# EAGLE library part EFM8BB21F16A-C-QFN20 (library EFM8BB21F16A-C-QFN20)
IC MCU 8BIT 16KB FLASH 20QFN Source: Datasheet <https://componentsearchengine.com/Datasheets/2/EFM8BB21F16A-C-QFN20.pdf>
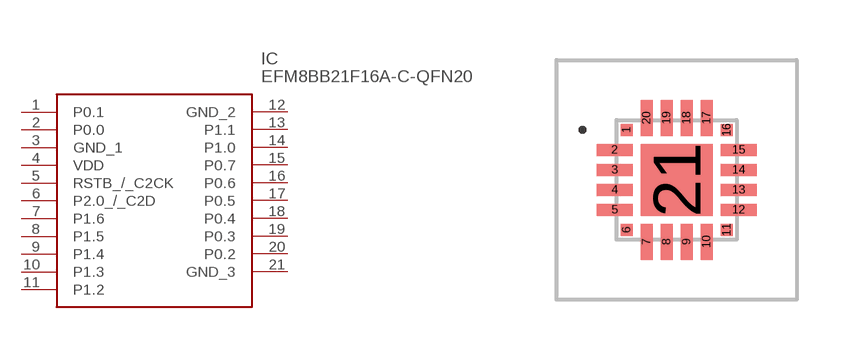
[diagram p0: symbol with the pads of EFM8BB21F16ACQFN20; footprint EFM8BB21F16ACQFN20]

Designator prefix IC

## EFM8BB21F16A-C-QFN20 (Description: IC MCU 8BIT 16KB FLASH 20QFN; Height: 0.8mm; Manufacturer_Name: Silicon Labs; Manufacturer_Part_Number: EFM8BB21F16A-C-QFN20; Mouser_Part_Number: 634-EFM8BB21F16FN20; Mouser_Price-Stock: https://www.mouser.co.uk/ProductDetail/Silicon-Labs/EFM8BB21F16A-C-QFN20?qs=8HqIXBaaO6yFJdjkDKkkeA%3D%3D)  [EFM8BB21F16ACQFN20]
1  P0.1
2  P0.0
3  GND_1
4  VDD
5  RSTB_/_C2CK
6  P2.0_/_C2D
7  P1.6
8  P1.5
9  P1.4
10  P1.3
11  P1.2
12  GND_2
13  P1.1
14  P1.0
15  P0.7
16  P0.6
17  P0.5
18  P0.4
19  P0.3
20  P0.2
21  GND_3

## Footprint EFM8BB21F16ACQFN20 (pad centres in mm)
EFM8BB21F16A-C-QFN20-6
smd 0.3 x 0.3: 1 -1.25,1.25; 6 -1.25,-1.25; 11 1.25,-1.25; 16 1.25,1.25
smd 0.9 x 0.3: 2 -1.55,0.75; 3 -1.55,0.25; 4 -1.55,-0.25; 5 -1.55,-0.75; 12 1.55,-0.75; 13 1.55,-0.25; 14 1.55,0.25; 15 1.55,0.75
smd 0.3 x 0.9: 7 -0.75,-1.55; 8 -0.25,-1.55; 9 0.25,-1.55; 10 0.75,-1.55; 17 0.75,1.55; 18 0.25,1.55; 19 -0.25,1.55; 20 -0.75,1.55
smd 1.8 x 1.8: 21 0,0